# Altium schematic symbol library Encoder Fin.SchLib: 10 symbols
Pins are listed as number, name and electrical type; pins without a type are passive.

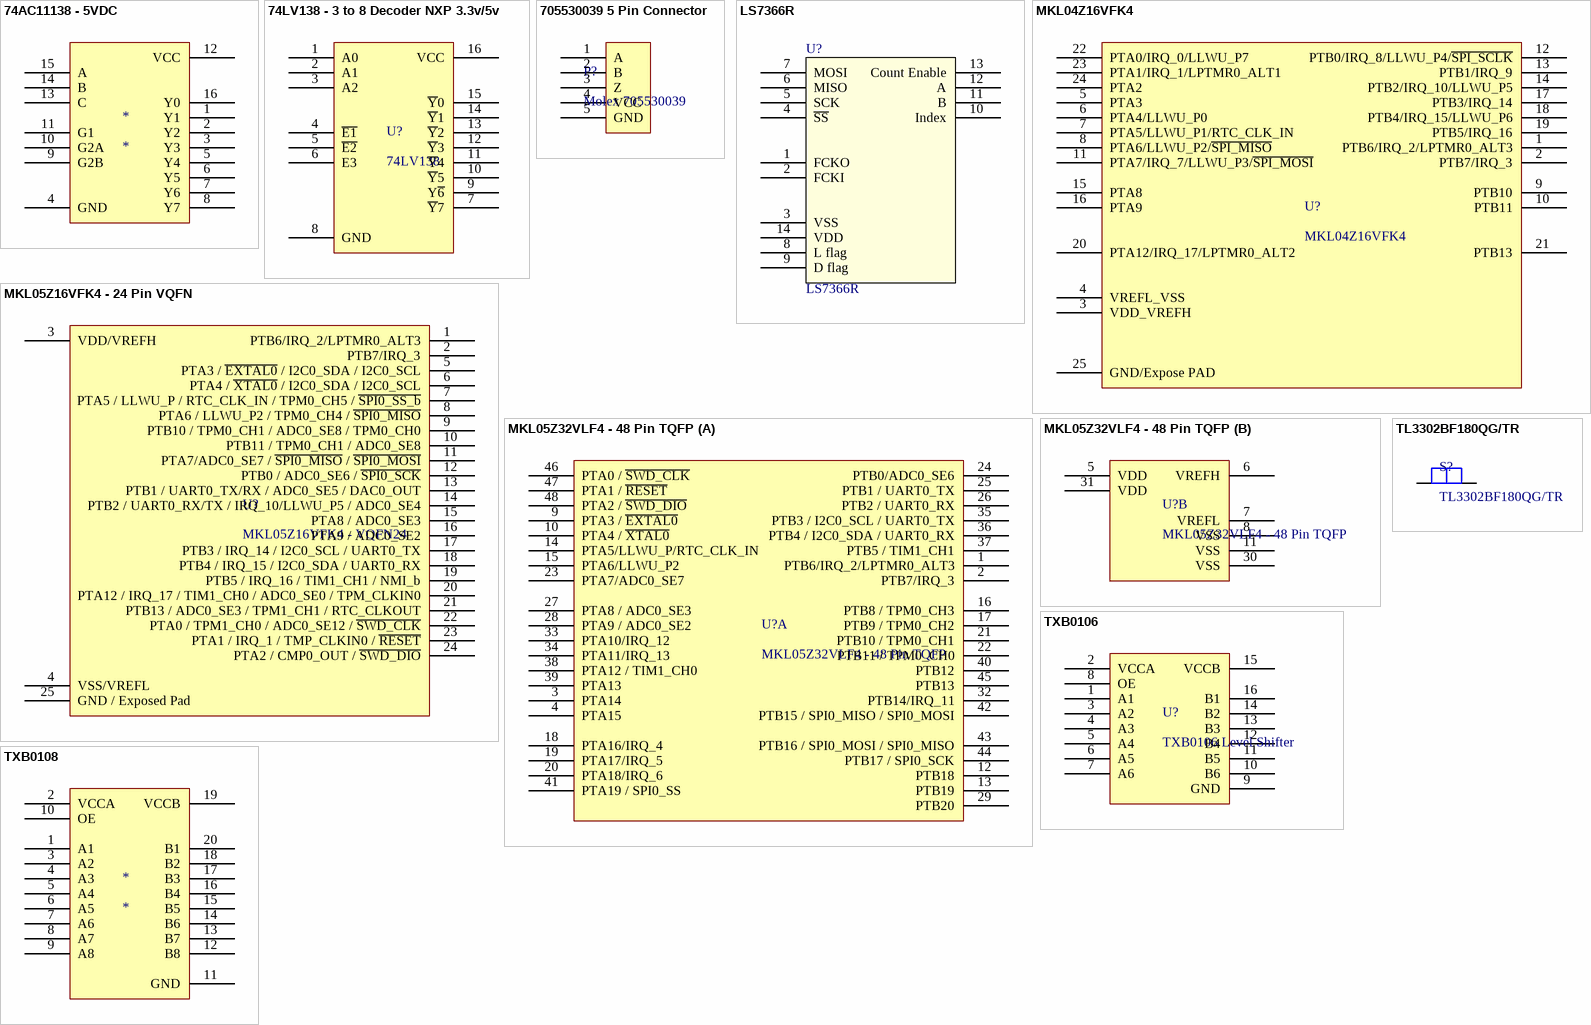
[diagram p0: symbols 74AC11138 - 5VDC to TXB0108]

## 74AC11138 - 5VDC
designator *
footprint TSOP65P640X120-16N-74IC (TSOP, 16-Leads, Body 5.00x4.40mm, Pitch 0.65mm, IPC Medium Density)
pins: 1 Y1, 2 Y2, 3 Y3, 4 GND, 5 Y4, 6 Y5, 7 Y6, 8 Y7, 9 G2B, 10 G2A, 11 G1, 12 VCC, 13 C, 14 B, 15 A, 16 Y0

## 74LV138 - 3 to 8 Decoder NXP 3.3v/5v
designator U?, comment 74LV138
74LV138 - 3 to 8 Decoder NXP 3.3v/5v
footprint TSOP65P640X120-16N-74IC (TSOP, 16-Leads, Body 5.00x4.40mm, Pitch 0.65mm, IPC Medium Density)
pins: 1 A0, 2 A1, 3 A2, 4 ~{E1}, 5 ~{E2}, 6 E3, 7 ~{Y}7, 8 GND, 9 Y~{6}, 10 ~{Y}5, 11 ~{Y}4, 12 ~{Y}3, 13 ~{Y}2, 14 ~{Y}1, 15 ~{Y}0, 16 VCC

## 705530039 5 Pin Connector
designator P?, comment Molex 705530039
Molex 5 Pin 2.54mm Spacing Snap Connector
footprint 705530039_sd (5 Pin Right Angle Molex Clip In Connector w/ 3D)
pins: 1 A, 2 B, 3 Z, 4 VCC, 5 GND

## LS7366R
designator U?
footprint SOIC127P630X175-14N (SOIC, 14-Leads, Body 10.0x4.0mm (max), Pitch 1.27mm, IPC Medium Density)
pins: 1 FCKO, 2 FCKI, 3 VSS, 4 ~{SS}, 5 SCK, 6 MISO, 7 MOSI, 8 L flag, 9 D flag, 10 Index, 11 B, 12 A, 13 Count Enable, 14 VDD

## MKL04Z16VFK4
designator U?
MKL04Z16VFK4 - FreeScale ARM Cortex M0+ QFN 24 Pin
footprint 98ASA00474D (QFN, 24-Leads, Body 3.98x3.98mm, Pitch 0.50mm, Thermal Pad 2.80x2.80mm, IPC Medium Density)
pins: 1 PTB6/IRQ_2/LPTMR0_ALT3, 2 PTB7/IRQ_3, 3 VDD_VREFH, 4 VREFL_VSS, 5 PTA3, 6 PTA4/LLWU_P0, 7 PTA5/LLWU_P1/RTC_CLK_IN, 8 PTA6/LLWU_P2/~{SPI_MISO}, 9 PTB10, 10 PTB11, 11 PTA7/IRQ_7/LLWU_P3/~{SPI_MOSI}, 12 PTB0/IRQ_8/LLWU_P4/~{SPI_SCLK}, 13 PTB1/IRQ_9, 14 PTB2/IRQ_10/LLWU_P5, 15 PTA8, 16 PTA9, 17 PTB3/IRQ_14, 18 PTB4/IRQ_15/LLWU_P6, 19 PTB5/IRQ_16, 20 PTA12/IRQ_17/LPTMR0_ALT2, 21 PTB13, 22 PTA0/IRQ_0/LLWU_P7, 23 PTA1/IRQ_1/LPTMR0_ALT1, 24 PTA2, 25 GND/Expose PAD

## MKL05Z16VFK4 - 24 Pin VQFN
designator U?, comment MKL05Z16VFK4 - VQFN24
ARM Cortex M0+
footprint 98ASA00474D (QFN, 24-Leads, Body 3.98x3.98mm, Pitch 0.50mm, Thermal Pad 2.80x2.80mm, IPC Medium Density)
pins: 1 PTB6/IRQ_2/LPTMR0_ALT3, 2 PTB7/IRQ_3, 3 VDD/VREFH, 4 VSS/VREFL, 5 PTA3 / ~{EXTAL0} / I2C0_SDA / I2C0_SCL, 6 PTA4 / ~{XTAL0} / I2C0_SDA / I2C0_SCL, 7 PTA5 / LLWU_P / RTC_CLK_IN / TPM0_CH5 / ~{SPI0_SS_b}, 8 PTA6 / LLWU_P2 / TPM0_CH4 / ~{SPI0_MISO}, 9 PTB10 / TPM0_CH1 / ADC0_SE8 / TPM0_CH0, 10 PTB11 / TPM0_CH1 / ADC0_SE8, 11 PTA7/ADC0_SE7 / ~{SPI0_MISO} / ~{SPI0_MOSI}, 12 PTB0 / ADC0_SE6 / ~{SPI0_SCK}, 13 PTB1 / UART0_TX/RX / ADC0_SE5 / DAC0_OUT, 14 PTB2 / UART0_RX/TX / IRQ_10/LLWU_P5 / ADC0_SE4, 15 PTA8 / ADC0_SE3, 16 PTA9 / ADC0_SE2, 17 PTB3 / IRQ_14 / I2C0_SCL / UART0_TX, 18 PTB4 / IRQ_15 / I2C0_SDA / UART0_RX, 19 PTB5 / IRQ_16 / TIM1_CH1 / NMI_b, 20 PTA12 / IRQ_17 / TIM1_CH0 / ADC0_SE0 / TPM_CLKIN0, 21 PTB13 / ADC0_SE3 / TPM1_CH1 / RTC_CLKOUT, 22 PTA0 / TPM1_CH0 / ADC0_SE12 / ~{SWD_CLK}, 23 PTA1 / IRQ_1 / TMP_CLKIN0 / ~{RESET}, 24 PTA2 / CMP0_OUT / ~{SWD_DIO}, 25 GND / Exposed Pad

## MKL05Z32VLF4 - 48 Pin TQFP
designator U?
ARM Cortex M0+
part A pins: 1 PTB6/IRQ_2/LPTMR0_ALT3, 2 PTB7/IRQ_3, 3 PTA14, 4 PTA15, 9 PTA3 / ~{EXTAL0}, 10 PTA4 / ~{XTAL0}, 12 PTB18, 13 PTB19, 14 PTA5/LLWU_P/RTC_CLK_IN, 15 PTA6/LLWU_P2, 16 PTB8 / TPM0_CH3, 17 PTB9 / TPM0_CH2, 18 PTA16/IRQ_4, 19 PTA17/IRQ_5, 20 PTA18/IRQ_6, 21 PTB10 / TPM0_CH1, 22 PTB11 / TPM0_CH0, 23 PTA7/ADC0_SE7, 24 PTB0/ADC0_SE6, 25 PTB1 / UART0_TX, 26 PTB2 / UART0_RX, 27 PTA8 / ADC0_SE3, 28 PTA9 / ADC0_SE2, 29 PTB20, 32 PTB14/IRQ_11, 33 PTA10/IRQ_12, 34 PTA11/IRQ_13, 35 PTB3 / I2C0_SCL / UART0_TX, 36 PTB4 / I2C0_SDA / UART0_RX, 37 PTB5 / TIM1_CH1, 38 PTA12 / TIM1_CH0, 39 PTA13, 40 PTB12, 41 PTA19 / SPI0_SS, 42 PTB15 / SPI0_MISO / SPI0_MOSI, 43 PTB16 / SPI0_MOSI / SPI0_MISO, 44 PTB17 / SPI0_SCK, 45 PTB13, 46 PTA0 / ~{SWD_CLK}, 47 PTA1 / ~{RESET}, 48 PTA2 / ~{SWD_DIO}
part B pins: 5 VDD, 6 VREFH, 7 VREFL, 8 VSS, 11 VSS, 30 VSS, 31 VDD

## TL3302BF180QG/TR
designator S?
Tactile Switch Tiny
footprint TL3302BF180QG/TR (Tactile Switch Tiny)
pins: 1, 2

## TXB0106
designator U?, comment TXB0106 Level Shifter
TXB0106 - Bidriectional Opendrain/pushpull level shift
footprint TSOP65P640X120-16N (TSOP, 16-Leads, Body 5.00x4.40mm, Pitch 0.65mm, IPC Medium Density)
pins: 1 A1, 2 VCCA, 3 A2, 4 A3, 5 A4, 6 A5, 7 A6, 8 OE, 9 GND, 10 B6, 11 B5, 12 B4, 13 B3, 14 B2, 15 VCCB, 16 B1

## TXB0108
designator *
footprint TSOP65P640X120-20N (TSOP, 20-Leads, Body 6.50x4.40mm, Pitch 0.65mm, IPC Medium Density)
pins: 1 A1, 2 VCCA, 3 A2, 4 A3, 5 A4, 6 A5, 7 A6, 8 A7, 9 A8, 10 OE, 11 GND, 12 B8, 13 B7, 14 B6, 15 B5, 16 B4, 17 B3, 18 B2, 19 VCCB, 20 B1